# EAGLE library part TPS54331 (library FUCK)
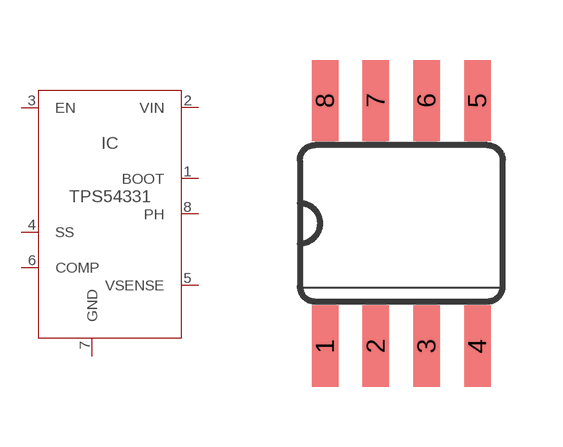
[diagram p3: symbol with the pads of SOIC-8; footprint SOIC-8]

Designator prefix IC

## TPS54331  [SOIC-8]
1  BOOT  out
2  VIN  in
3  EN  in
4  SS  in
5  VSENSE  in
6  COMP  out
7  GND  pas
8  PH  out

## Footprint SOIC-8 (pad centres in mm)
Small Outline package 8 150 mil
smd 0.66 x 2.032: 1 -1.905,-3.073; 2 -0.635,-3.073; 3 0.635,-3.073; 4 1.905,-3.073; 5 1.905,3.073; 6 0.635,3.073; 7 -0.635,3.073; 8 -1.905,3.073